# Altium footprint library BrauV2_Discrete_SMD.PcbLib: 20 footprints (part 2 of 2)
Each footprint in its own frame and in the unit in brackets; x right, y up, seen from the top. Pads: shape width x height; smd on the part's side, far side on the other; paste and mask are expansions set on the pad; w line width, h text height; cw(c..) or ccw(c..) is an arc to the next point about the centre after c.
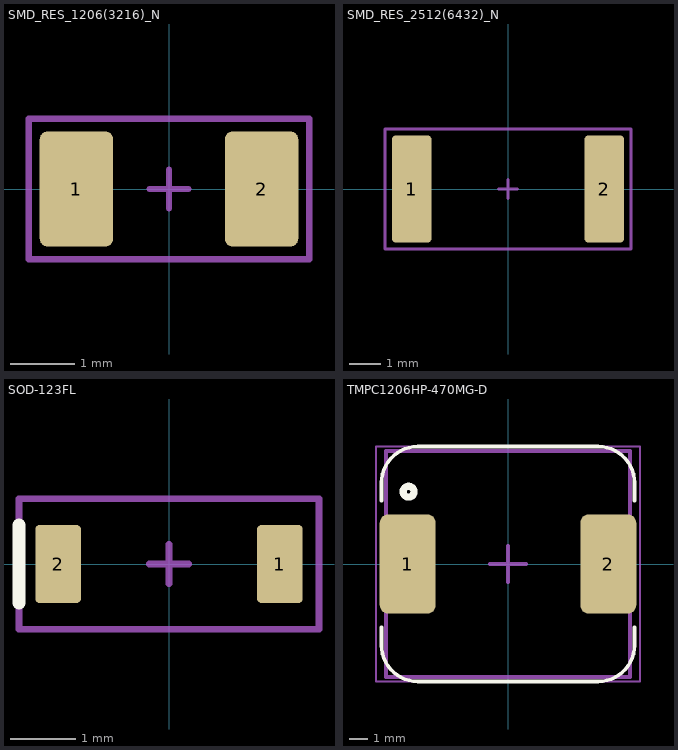
[diagram p1: the footprints below, top view; thin cyan lines are the x and y axes]

## SMD_RES_1206(3216)_N [mm]
pads (2):
  rrect20% 1.15x1.8 smd: 1(-1.45,0) 2(1.45,0)
Top Courtyard (Mech15):
  lines w0.1: -0.3,0 0.3,0 ; 0,-0.3 0,0.3 ; -2.2,-1.1 2.2,-1.1 2.2,1.1 -2.2,1.1 -2.2,-1.1
3D body "Resistor 1206.step": height 0.6, standoff 0, extent -1.9,-0.8 1.9,0.8

## SMD_RES_2512(6432)_N [mm]
pads (2):
  rrect20% 1.25x3.4 smd: 1(-3.05,0) 2(3.05,0)
Top Courtyard (Mech15):
  lines w0.1: -0.3,0 0.3,0 ; 0,-0.3 0,0.3 ; -3.9,-1.9 -3.9,1.9 3.9,1.9 3.9,-1.9 -3.9,-1.9
3D body "Resistor 2512.step": height 0.6, standoff 0, extent -3.4,-1.55 3.4,1.55

## SOD-123FL [mm]
pads (2):
  rrect20% 0.7x1.2 smd: 1(1.7,0) 2(-1.7,0)
Top Overlay:
  lines w0.2: -2.3,-0.6 -2.3,0.6
Top Courtyard (Mech15):
  lines w0.1: -0.3,0 0.3,0 ; 0,-0.3 0,0.3 ; -2.3,-1 -2.3,1 2.3,1 2.3,-1 -2.3,-1
3D body "PMDU.stp": height 0.9, standoff 0, extent -1.81,-0.85 1.81,0.85

## TMPC1206HP-470MG-D [mm] "47uH ±20% 5.5A 80mO SMD,13.5x12.5x5.7mm Power Inductors RoHS"
pads (2):
  rrect30% 3.1x5.5 smd: 1(-5.55,0) 2(5.55,0)
Top Overlay:
  circle w0.4: c-5.5,4 r0.3
  lines w0.2: -7,-3.5 -7,-4.5 ccw(c-5,-4.5) -5,-6.5 5,-6.5 ccw(c5,-4.5) 7,-4.5 7,-3.5 ; -7,3.5 -7,4.5 cw(c-5,4.5) -5,6.5 5,6.5 cw(c5,4.5) 7,4.5 7,3.5
Top Assembly:
  lines w0.2: -6.75,-6.25 -6.75,6.25 6.75,6.25 6.75,-6.25 -6.75,-6.25
Top Courtyard (Mech15):
  lines w0.1: -7.3,-6.5 7.3,-6.5 7.3,6.5 -7.3,6.5 -7.3,-6.5
  lines w0.2: -1,0 1,0 ; 0,-1 0,1
3D body: height 5.7, standoff 0, extent -6.75,-6.25 6.75,6.25